# Altium footprint library LASER_LIB_PCB.PcbLib: 46 footprints (part 3 of 3)
Each footprint in its own frame and in the unit in brackets; x right, y up, seen from the top. Pads: shape width x height; smd on the part's side, far side on the other; paste and mask are expansions set on the pad; w line width, h text height; cw(c..) or ccw(c..) is an arc to the next point about the centre after c.
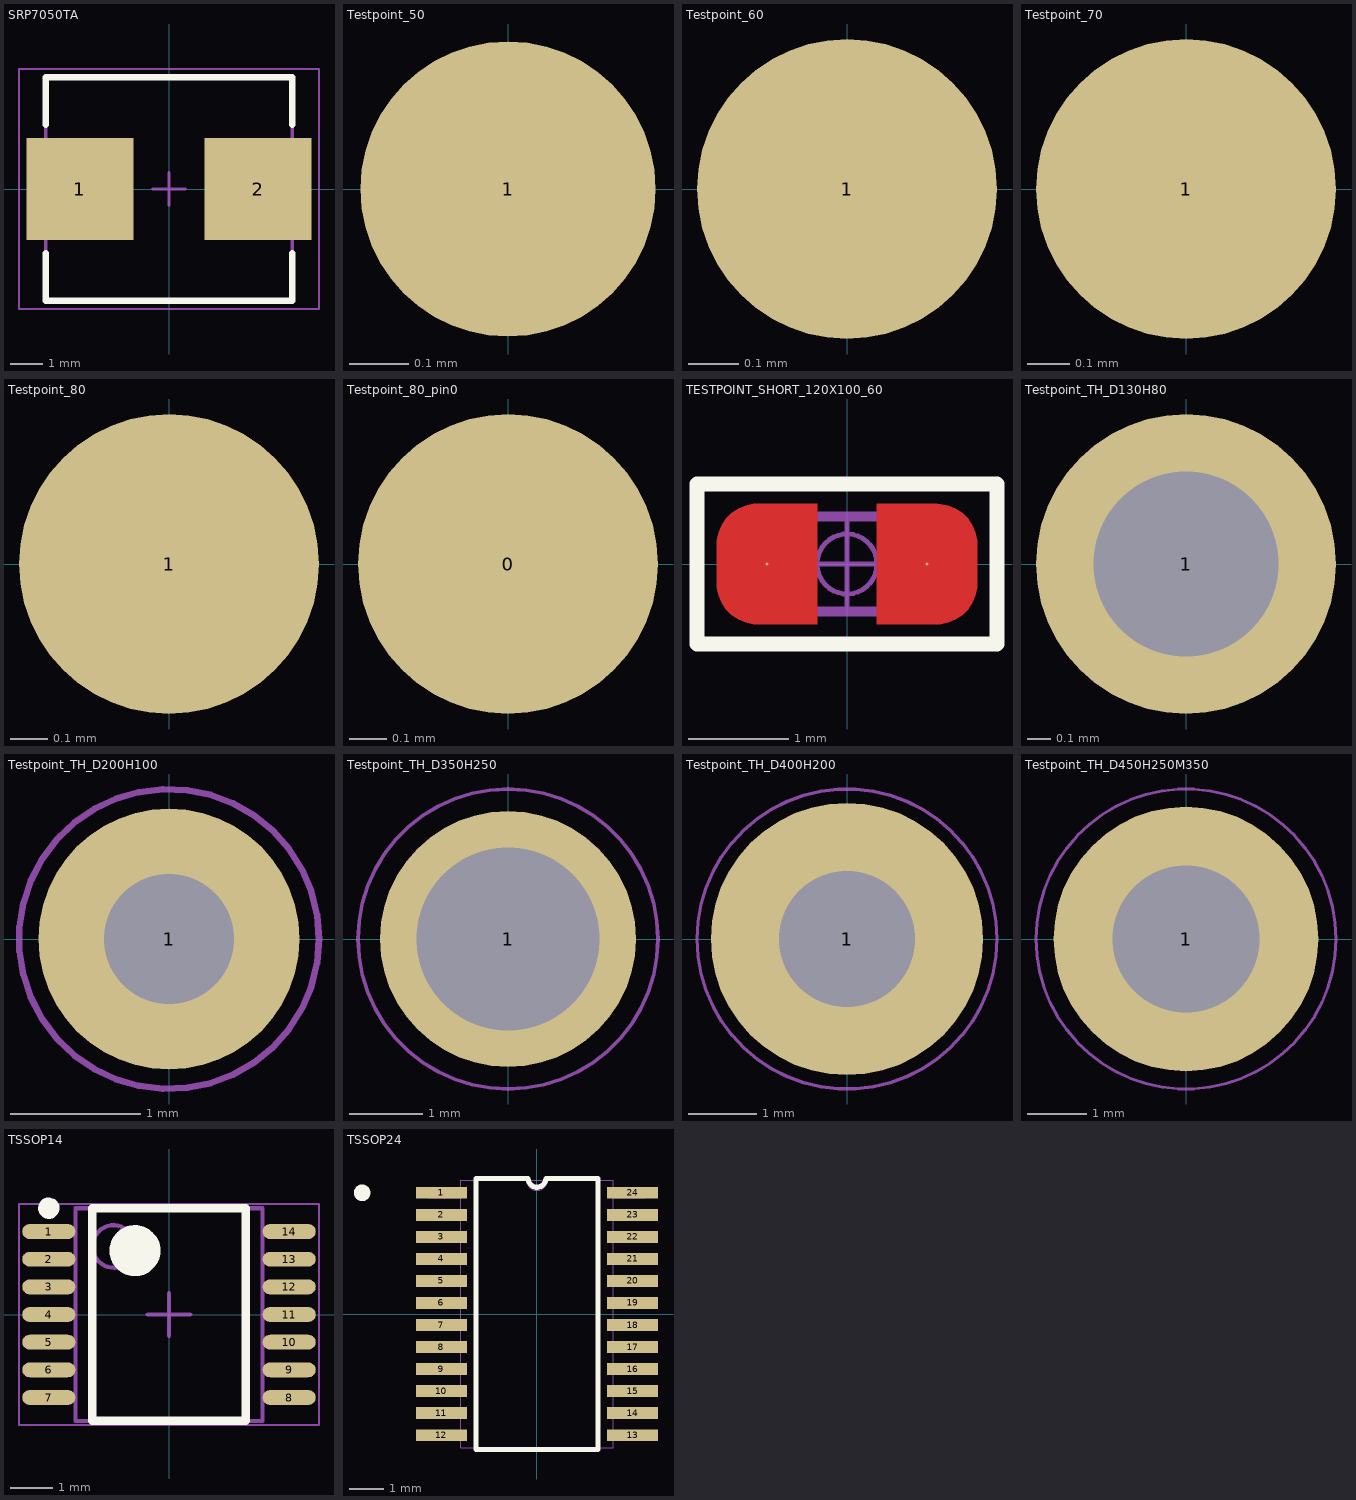
[diagram p2: the footprints below, top view; thin cyan lines are the x and y axes]

## SRP7050TA [mm]
pads (2):
  rect 3.3x3.15 smd: 1(-2.75,0) 2(2.75,0)
Top Overlay:
  lines w0.2: -3.8,-1.975 -3.8,-3.45 3.8,-3.45 3.8,-1.975 ; -3.8,1.975 -3.8,3.45 3.8,3.45 3.8,1.975
Top 3D Body:
  lines w0.1: -3.8,-3.45 3.8,-3.45 3.8,3.45 -3.8,3.45 -3.8,-3.45
Top Courtyard:
  lines w0.05: -4.625,-3.7 4.625,-3.7 4.625,3.7 -4.625,3.7 -4.625,-3.7
  lines w0.1: -0.5,0 0.5,0 ; 0,-0.5 0,0.5
3D body "PSM6050 Molded high current inductor.STEP": height 4.91, standoff -0.05, extent -3.6,-3.3 3.6,3.3

## Testpoint_50 [mm]
pads (1):
  round 0.5 smd paste-2539.97 mask+0: 1(0,0)

## Testpoint_60 [mm]
pads (1):
  round 0.6 smd paste-2539.97 mask+0: 1(0,0)

## Testpoint_70 [mm]
pads (1):
  round 0.7 smd paste-2539.97 mask+0: 1(0,0)

## Testpoint_80 [mm]
pads (1):
  round 0.8 smd paste-2539.97 mask+0: 1(0,0)

## Testpoint_80_pin0 [mm]
pads (1):
  round 0.8 smd paste-2539.97 mask+0: 0(0,0)

## TESTPOINT_SHORT_120X100_60 [mil] "Chip Resistor, 2-Leads, Body 1.63x0.83mm, IPC High Density"
height 23.62
pads (2):
  round 1 smd paste-99999 mask+1.97: 1(-31.5,0) 2(31.5,0)
Top Layer:
  region: 51.18,-7.87 51.18,-9.43 50.58,-12.47 49.39,-15.33 47.67,-17.91 45.47,-20.11 42.89,-21.83 40.03,-23.02 36.98,-23.62 35.43,-23.62 11.81,-23.62 11.81,23.62 35.43,23.62 36.98,23.62 40.03,23.02 42.89,21.83 45.47,20.11 47.67,17.91 49.39,15.33 50.58,12.47 51.18,9.43 51.18,7.87
  region: -11.81,23.62 -11.81,-23.62 -35.43,-23.62 -36.98,-23.62 -40.03,-23.02 -42.89,-21.83 -45.47,-20.11 -47.67,-17.91 -49.39,-15.33 -50.58,-12.47 -51.18,-9.43 -51.18,-7.87 -51.18,7.87 -51.18,9.43 -50.58,12.47 -49.39,15.33 -47.67,17.91 -45.47,20.11 -42.89,21.83 -40.03,23.02 -36.98,23.62 -35.43,23.62
Top Overlay:
  lines w5.91: -59.06,-31.5 59.06,-31.5 59.06,31.5 -59.06,31.5 -59.06,-31.5
Top Assembly:
  lines w3.94: -34.45,-18.7 34.45,-18.7 34.45,18.7 -34.45,18.7 -34.45,-18.7
  text "'.Designator'" at -166.01,-26.12 h62.99
Top Component Center:
  circle w1.97: c0,0 r11.81
  lines w1.97: -19.68,0 19.68,0 ; 0,-19.68 0,19.68
Top Courtyard:
  lines w1.97: -59.06,-31.5 59.06,-31.5 59.06,31.5 -59.06,31.5 -59.06,-31.5
3D body: height 0.39, standoff 0, extent -17.72,-7.87 17.72,7.87

## Testpoint_TH_D130H80 [mm]
pads (1):
  round 1.3 hole 0.8 paste-2539.97 mask+0: 1(0,0)

## Testpoint_TH_D200H100 [mm]
pads (1):
  round 2 hole 1 paste-2539.97 mask+0: 1(0,0)
Top Courtyard:
  circle w0.05: c0,0 r1.15

## Testpoint_TH_D350H250 [mm]
pads (1):
  round 3.5 hole 2.5 paste-2539.97 mask+0: 1(0,0)
Top Courtyard:
  circle w0.05: c0,0 r2.05

## Testpoint_TH_D400H200 [mm]
pads (1):
  round 4 hole 2 paste-2539.97 mask+0: 1(0,0)
Top Courtyard:
  circle w0.05: c0,0 r2.202

## Testpoint_TH_D450H250M350 [mm]
pads (1):
  round 4.5 / inner round 3.5 / far side round 4.5 hole 2.5 paste-2539.97 mask+0: 1(0,0)
Top Courtyard:
  circle w0.05: c0,0 r2.55

## TSSOP14 [mm]
pads (14):
  oval 1.25x0.35 smd mask+0.05: 1(-2.825,1.95) 2(-2.825,1.3) 3(-2.825,0.65) 4(-2.825,0) 5(-2.825,-0.65) 6(-2.825,-1.3) 7(-2.825,-1.95) 8(2.825,-1.95) 9(2.825,-1.3) 10(2.825,-0.65) 11(2.825,0) 12(2.825,0.65) 13(2.825,1.3) 14(2.825,1.95)
Top Overlay:
  circle w0.6: c-0.8,1.5 r0.3
  lines w0.2: -1.8,-2.5 1.8,-2.5 1.8,2.5 -1.8,2.5 -1.8,-2.5
  lines w0.25: -2.825,2.625 ccw(c-2.825,2.5) -2.75,2.6
Top 3D Body:
  circle w0.1: c-1.3,1.6 r0.5
  lines w0.1: -2.2,-2.5 2.2,-2.5 2.2,2.5 -2.2,2.5 -2.2,-2.5
Top Courtyard:
  lines w0.05: -3.525,-2.6 3.525,-2.6 3.525,2.6 -3.525,2.6 -3.525,-2.6
  lines w0.1: -0.5,0 0.5,0 ; 0,-0.5 0,0.5
3D body "User Library-IPC SO.step": height 1.25, standoff 0, extent -3.228,-2.55 3.228,2.55

## TSSOP24 [mm]
pads (24):
  rect 1.5x0.35 smd mask+0.08: 1(-2.819,3.575) 2(-2.819,2.925) 3(-2.819,2.275) 4(-2.819,1.625) 5(-2.819,0.975) 6(-2.819,0.325) 7(-2.819,-0.325) 8(-2.819,-0.975) 9(-2.819,-1.625) 10(-2.819,-2.275) 11(-2.819,-2.925) 12(-2.819,-3.575) 13(2.819,-3.575) 14(2.819,-2.925) 15(2.819,-2.275) 16(2.819,-1.625) 17(2.819,-0.975) 18(2.819,-0.325) 19(2.819,0.325) 20(2.819,0.975) 21(2.819,1.625) 22(2.819,2.275) 23(2.819,2.925) 24(2.819,3.575)
Top Overlay:
  circle w0.25: c-5.158,3.575 r0.12
  lines w0.15: -1.8,-4 1.8,-4 1.8,4 0.262,4 cw(c0,4) -0.262,4 -1.8,4 -1.8,-4
Top 3D Body:
  lines w0: -0.305,3.95 ccw(c0,3.95) 0.305,3.95
  lines w0.025: -3.2,-3.727 -2.248,-3.727 -2.248,-3.423 -3.2,-3.423 -3.2,-3.727 ; -3.2,-3.077 -2.248,-3.077 -2.248,-2.773 -3.2,-2.773 -3.2,-3.077 ; -3.2,-2.427 -2.248,-2.427 -2.248,-2.123 -3.2,-2.123 -3.2,-2.427 ; -3.2,-1.777 -2.248,-1.777 -2.248,-1.473 -3.2,-1.473 -3.2,-1.777 ; -3.2,-1.127 -2.248,-1.127 -2.248,-0.823 -3.2,-0.823 -3.2,-1.127 ; -3.2,-0.477 -2.248,-0.477 -2.248,-0.173 -3.2,-0.173 -3.2,-0.477 ; -3.2,0.173 -2.248,0.173 -2.248,0.477 -3.2,0.477 -3.2,0.173 ; -3.2,0.823 -2.248,0.823 -2.248,1.127 -3.2,1.127 -3.2,0.823 ; -3.2,1.473 -2.248,1.473 -2.248,1.777 -3.2,1.777 -3.2,1.473 ; -3.2,2.123 -2.248,2.123 -2.248,2.427 -3.2,2.427 -3.2,2.123 ; -3.2,2.773 -2.248,2.773 -2.248,3.077 -3.2,3.077 -3.2,2.773 ; -3.2,3.423 -2.248,3.423 -2.248,3.727 -3.2,3.727 -3.2,3.423 ; -2.248,-3.95 -2.248,3.95 2.248,3.95 2.248,-3.95 -2.248,-3.95 ; 2.248,-3.727 3.2,-3.727 3.2,-3.423 2.248,-3.423 2.248,-3.727 ; 2.248,-3.077 3.2,-3.077 3.2,-2.773 2.248,-2.773 2.248,-3.077 ; 2.248,-2.427 3.2,-2.427 3.2,-2.123 2.248,-2.123 2.248,-2.427 ; 2.248,-1.777 3.2,-1.777 3.2,-1.473 2.248,-1.473 2.248,-1.777 ; 2.248,-1.127 3.2,-1.127 3.2,-0.823 2.248,-0.823 2.248,-1.127 ; 2.248,-0.477 3.2,-0.477 3.2,-0.173 2.248,-0.173 2.248,-0.477 ; 2.248,0.173 3.2,0.173 3.2,0.477 2.248,0.477 2.248,0.173 ; 2.248,0.823 3.2,0.823 3.2,1.127 2.248,1.127 2.248,0.823 ; 2.248,1.473 3.2,1.473 3.2,1.777 2.248,1.777 2.248,1.473 ; 2.248,2.123 3.2,2.123 3.2,2.427 2.248,2.427 2.248,2.123 ; 2.248,2.773 3.2,2.773 3.2,3.077 2.248,3.077 2.248,2.773 ; 2.248,3.423 3.2,3.423 3.2,3.727 2.248,3.727 2.248,3.423
3D body "User Library-IPC SO.step": height 1.25, standoff 0, extent -3.228,-3.95 3.228,3.95